# EAGLE library part LTC1157* (library mike-temp)
3.3V/5V Dual Micropower High-Side/Low-Side MOSFET Driver The LTC1157 dual 3.3V micropower MOSFET gate driver makes it possible to switch either supply or ground reference loads through a low RDS(ON) N-channel switch (N-channel switches are required at 3.3V because Pchannel MOSFETs do not have guaranteed RDS(ON) with VGS less than 3.3V). The LTC1157 internal charge pump boosts the gate drive voltage 5.4V above the positive rail (8.7V above ground), fully enhancing a logic level N-channel switch for 3.3V high-side applications and a standard Nchannel switch for 3.3V low-side applications. The gate drive voltage at 5V is typically 8.8V above supply (13.8V above ground), so standard N-channel MOSFET switches can be used for both high-side and low-side applications. Micropower operation, with 3mA standby current and 80mA operating current, makes the LTC1157 well suited for battery-powered applications. Features: Allows Lowest Drop 3.3V Supply Switching Operates on 3.3V or 5V Nominal Supplies 3 Microamps Standby Current 80 Microamps ON Current Drives Low Cost N-Channel Power MOSFETs No External Charge Pump Components Controlled Switching ON and OFF Times Compatible with 3.3V and 5V Logic Families Available in 8-Pin SOIC
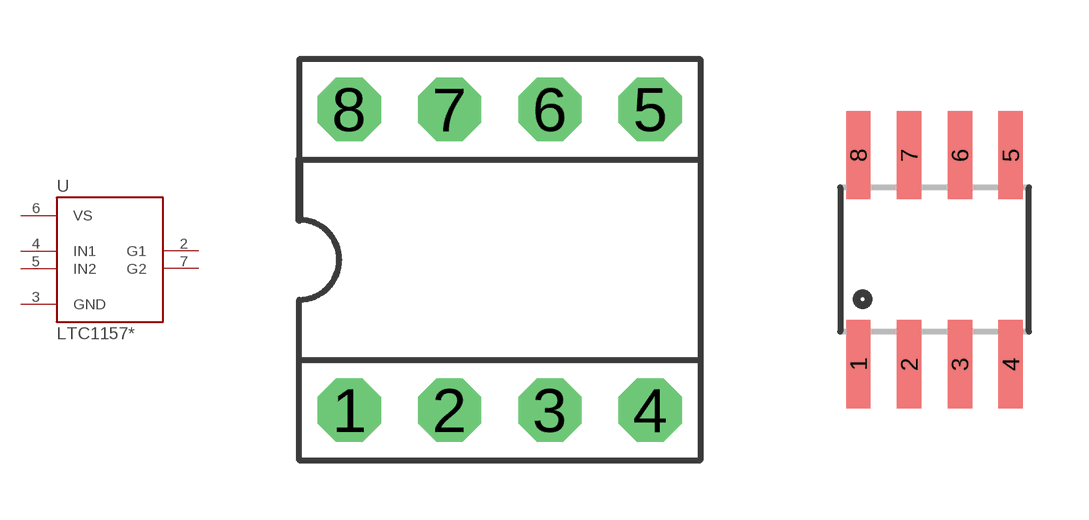
[diagram p2: symbol with the pads of DIL08; footprints DIL08, SOIC8]

Designator prefix U

## LTC1157CN8  [DIL08]
2  G1
3  GND  pwr
4  IN1  in
5  IN2  in
6  VS  pwr
7  G2

## LTC1157CS8  [SOIC8]
Pads as for DIL08

## Footprint DIL08 (pad centres in mm)
Dual In Line
drill 0.813 pad 1.6 octagon: 1 -3.81,-3.81; 2 -1.27,-3.81; 3 1.27,-3.81; 4 3.81,-3.81; 5 3.81,3.81; 6 1.27,3.81; 7 -1.27,3.81; 8 -3.81,3.81

## Footprint SOIC8 (pad centres in mm)
smd 0.61 x 2.21: 1 -1.905,-2.616; 2 -0.635,-2.616; 3 0.635,-2.616; 4 1.905,-2.616; 5 1.905,2.616; 6 0.635,2.616; 7 -0.635,2.616; 8 -1.905,2.616